# Altium schematic symbol library IC_ESD_USBLC6-2SC6.SchLib: 1 symbol
Pins are listed as number, name and electrical type; pins without a type are passive.

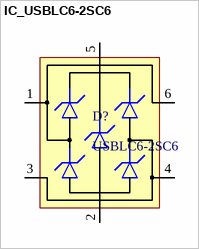
[diagram p0: symbol IC_USBLC6-2SC6]

## IC_USBLC6-2SC6
designator D?, comment USBLC6-2SC6
Low-Capacitance ESD Protection USB; Manufacturer: STMicroelectronics; Manufacturer Part Number: USBLC6-2SC6; Distributor Link: https://www.mouser.de/ProductDetail/STMicroelectronics/USBLC6-2SC6?qs=po45yt2pPpu%2FhNIlwQdTlg%3D%3D
footprint PKG_SOT-23-6
pins: 1 IO1 (io), 2 GND (power), 3 IO2 (io), 4 IO2 (io), 5 VBUS (power), 6 IO1 (io)